# Altium footprint library XH-JST_2.5mm.PcbLib: 27 footprints (part 2 of 2)
Each footprint in its own frame and in the unit in brackets; x right, y up, seen from the top. Pads: shape width x height; smd on the part's side, far side on the other; paste and mask are expansions set on the pad; w line width, h text height; cw(c..) or ccw(c..) is an arc to the next point about the centre after c.
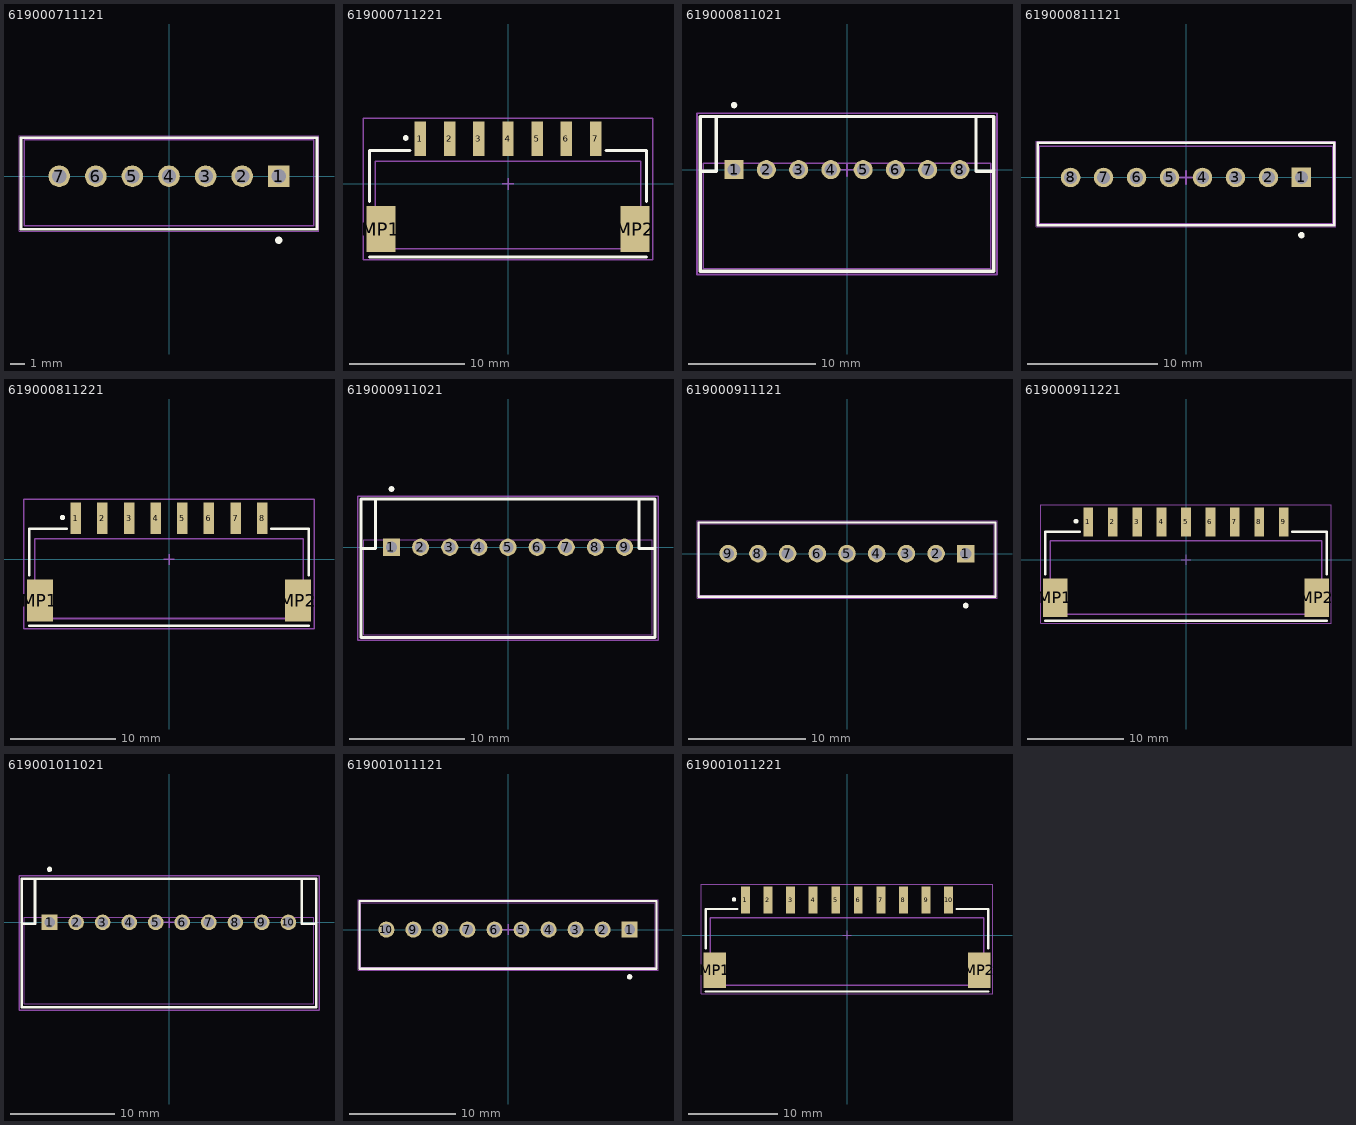
[diagram p1: the footprints below, top view; thin cyan lines are the x and y axes]

## 619000711121 [mm] "2.54mm Male Locking Header, 7p"
height 11.5
pads (7):
  rect 1.5x1.5 hole 1: 1(7.62,0)
  round 1.5 hole 1: 2(5.08,0) 3(2.54,0) 4(0,0) 5(-2.54,0) 6(-5.08,0) 7(-7.62,0)
Top Overlay:
  circle w0.25: c7.62,-4.445 r0.125
  lines w0.2: -10.287,-3.683 10.287,-3.683 10.287,2.667 -10.287,2.667 -10.287,-3.683
Top Courtyard:
  lines w0.127: -0.5,0 0.5,0 ; 0,-0.5 0,0.5
Mechanical 13:
  lines w0.1: -10.033,-3.429 -10.033,2.54 10.033,2.54 10.033,-3.429 -10.033,-3.429
Mechanical 15:
  lines w0.05: -10.414,-3.81 -10.414,2.794 10.414,2.794 10.414,-3.81 -10.414,-3.81
3D body "JST - XH - Thru (V) - 7Pin - 2.54mm.stp": height 7.21, standoff -3, extent -9.957,-3.353 9.957,2.489

## 619000711221 [mm] "2.54mm Male Left Angled Header Bottom Locking, 7p, SMD"
height 5.8
pads (9):
  rect 1x3 smd: 1(-7.62,3.937) 2(-5.08,3.937) 3(-2.54,3.937) 4(0,3.937) 5(2.54,3.937) 6(5.08,3.937) 7(7.62,3.937)
  rect 2.5x4 smd: MP1(-11.049,-3.937) MP2(11.049,-3.937)
Top Overlay:
  circle w0.25: c-8.89,4 r0.125
  lines w0.254: -12.065,-6.35 12.065,-6.35 ; -12.065,-1.524 -12.065,2.921 -8.509,2.921 ; 8.509,2.921 12.065,2.921 12.065,-1.524
Top Courtyard:
  lines w0.127: -0.5,0 0.5,0 ; 0,-0.5 0,0.5
Mechanical 13:
  lines w0.152: -11.557,-5.651 -11.557,1.968 11.557,1.968 11.557,-5.651 -11.557,-5.651
Mechanical 15:
  lines w0.127: -12.573,-6.604 -12.573,5.715 12.573,5.715 12.573,-6.604 -12.573,-6.604
3D body "JST - XH - SMD (R) - 7Pin - 2.54mm.stp": height 5.92, standoff 0, extent -11.417,-5.715 11.417,4.191

## 619000811021 [mm] "2.54mm Male Locking Header, 8p"
height 11.5
pads (8):
  rect 1.5x1.5 hole 1: 1(-8.89,0)
  round 1.5 hole 1: 2(-6.35,0) 3(-3.81,0) 4(-1.27,0) 5(1.27,0) 6(3.81,0) 7(6.35,0) 8(8.89,0)
Top Overlay:
  circle w0.25: c-8.89,5.08 r0.125
  lines w0.254: -11.557,-0.127 -10.287,-0.127 -10.287,4.191 ; 10.16,4.191 10.16,-0.127 11.557,-0.127 ; -11.557,-8.001 11.557,-8.001 11.557,4.191 -11.557,4.191 -11.557,-8.001
Top Courtyard:
  lines w0.127: -0.5,0 0.5,0 ; 0,-0.5 0,0.5
Mechanical 13:
  lines w0.1: -11.303,-7.793 -11.303,0.508 11.303,0.508 11.303,-7.793 -11.303,-7.793
Mechanical 15:
  lines w0.127: -11.811,-8.255 11.811,-8.255 11.811,4.445 -11.811,4.445 -11.811,-8.255
3D body "JST - XH - Thru (R) - 8Pin - 2.54mm.stp": height 5.84, standoff -3.38, extent -11.227,-7.707 11.227,0.33

## 619000811121 [mm] "2.54mm Male Locking Header, 8p"
height 11.5
pads (8):
  rect 1.5x1.5 hole 1: 1(8.89,0)
  round 1.5 hole 1: 2(6.35,0) 3(3.81,0) 4(1.27,0) 5(-1.27,0) 6(-3.81,0) 7(-6.35,0) 8(-8.89,0)
Top Overlay:
  circle w0.25: c8.89,-4.445 r0.125
  lines w0.2: -11.43,-3.683 -11.43,2.667 11.43,2.667 11.43,-3.683 -11.43,-3.683
Top Courtyard:
  lines w0.127: -0.5,0 0.5,0 ; 0,-0.5 0,0.5
Mechanical 13:
  lines w0.1: -11.303,-3.556 -11.303,2.413 11.303,2.413 11.303,-3.556 -11.303,-3.556
Mechanical 15:
  lines w0.05: -11.557,-3.81 11.557,-3.81 11.557,2.794 -11.557,2.794 -11.557,-3.81
3D body "JST - XH - Thru (V) - 8Pin - 2.54mm.stp": height 7.21, standoff -3, extent -11.227,-3.399 11.227,2.443

## 619000811221 [mm] "2.54mm Male Left Angled Header Bottom Locking, 8p, SMD"
height 5.8
pads (10):
  rect 1x3 smd: 1(-8.89,3.937) 2(-6.35,3.937) 3(-3.81,3.937) 4(-1.27,3.937) 5(1.27,3.937) 6(3.81,3.937) 7(6.35,3.937) 8(8.89,3.937)
  rect 2.5x4 smd: MP1(-12.319,-3.937) MP2(12.319,-3.937)
Top Overlay:
  circle w0.25: c-10.16,4 r0.125
  lines w0.254: -13.335,-6.35 13.335,-6.35 ; -13.335,-1.524 -13.335,2.921 -9.779,2.921 ; 9.779,2.921 13.335,2.921 13.335,-1.524
Top Courtyard:
  lines w0.127: -0.5,0 0.5,0 ; 0,-0.5 0,0.5
Mechanical 13:
  lines w0.152: -12.827,-5.651 12.827,-5.651 12.827,1.968 -12.827,1.968 -12.827,-5.651
Mechanical 15:
  lines w0.127: -13.843,-6.604 13.843,-6.604 13.843,5.715 -13.843,5.715 -13.843,-6.604
3D body "JST - XH - SMD (R) - 8Pin - 2.54mm.stp": height 5.92, standoff 0, extent -12.687,-5.715 12.687,4.191

## 619000911021 [mm] "2.54mm Male Locking Header, 7p"
height 11.5
pads (9):
  rect 1.5x1.5 hole 1: 1(-10.16,0)
  round 1.5 hole 1: 2(-7.62,0) 3(-5.08,0) 4(-2.54,0) 5(0,0) 6(2.54,0) 7(5.08,0) 8(7.62,0) 9(10.16,0)
Top Overlay:
  circle w0.25: c-10.16,5.08 r0.125
  lines w0.254: -12.827,-0.127 -11.557,-0.127 -11.557,4.191 ; 11.43,4.191 11.43,-0.127 12.827,-0.127 ; -12.827,-7.874 12.827,-7.874 12.827,4.191 -12.827,4.191 -12.827,-7.874
Top Courtyard:
  lines w0.127: -0.5,0 0.5,0 ; 0,-0.5 0,0.5
Mechanical 13:
  lines w0.1: -12.573,-7.62 -12.573,0.635 12.573,0.635 12.573,-7.62 -12.573,-7.62
Mechanical 15:
  lines w0.127: -13.081,-8.128 13.081,-8.128 13.081,4.445 -13.081,4.445 -13.081,-8.128
3D body "JST - XH - Thru (R) - 9Pin - 2.54mm.stp": height 5.84, standoff -3.38, extent -12.497,-7.534 12.497,0.503

## 619000911121 [mm] "2.54mm Male Locking Header, 7p"
height 11.5
pads (9):
  rect 1.5x1.5 hole 1: 1(10.16,0)
  round 1.5 hole 1: 2(7.62,0) 3(5.08,0) 4(2.54,0) 5(0,0) 6(-2.54,0) 7(-5.08,0) 8(-7.62,0) 9(-10.16,0)
Top Overlay:
  circle w0.25: c10.16,-4.445 r0.125
  lines w0.2: -12.7,-3.683 12.7,-3.683 12.7,2.667 -12.7,2.667 -12.7,-3.683
Top Courtyard:
  lines w0.127: -0.5,0 0.5,0 ; 0,-0.5 0,0.5
Mechanical 13:
  lines w0.1: -12.573,-3.556 12.573,-3.556 12.573,2.54 -12.573,2.54 -12.573,-3.556
Mechanical 15:
  lines w0.05: -12.827,-3.81 -12.827,2.794 12.827,2.794 12.827,-3.81 -12.827,-3.81
3D body "JST - XH - Thru (V) - 9Pin - 2.54mm.stp": height 7.21, standoff -3, extent -12.497,-3.353 12.497,2.489

## 619000911221 [mm] "2.54mm Male Left Angled Header Bottom Locking, 9p, SMD"
height 5.8
pads (11):
  rect 1x3 smd: 1(-10.16,3.937) 2(-7.62,3.937) 3(-5.08,3.937) 4(-2.54,3.937) 5(0,3.937) 6(2.54,3.937) 7(5.08,3.937) 8(7.62,3.937) 9(10.16,3.937)
  rect 2.5x4 smd: MP1(-13.589,-3.937) MP2(13.589,-3.937)
Top Overlay:
  circle w0.25: c-11.43,4 r0.125
  lines w0.254: -14.605,-6.35 14.605,-6.35 ; -14.605,-1.524 -14.605,2.921 -11.049,2.921 ; 11.049,2.921 14.605,2.921 14.605,-1.524
Top Courtyard:
  lines w0.127: -0.5,0 0.5,0 ; 0,-0.5 0,0.5
Mechanical 13:
  lines w0.152: -14.097,-5.651 14.097,-5.651 14.097,1.968 -14.097,1.968 -14.097,-5.651
Mechanical 15:
  lines w0.127: -15.113,-6.604 15.113,-6.604 15.113,5.715 -15.113,5.715 -15.113,-6.604
3D body "JST - XH - SMD (R) - 9Pin - 2.54mm.stp": height 5.92, standoff 0, extent -13.957,-5.588 13.957,4.318

## 619001011021 [mm] "2.54mm Male Locking Header, 10p"
height 11.5
pads (10):
  rect 1.5x1.5 hole 1: 1(-11.43,0)
  round 1.5 hole 1: 2(-8.89,0) 3(-6.35,0) 4(-3.81,0) 5(-1.27,0) 6(1.27,0) 7(3.81,0) 8(6.35,0) 9(8.89,0) 10(11.43,0)
Top Overlay:
  circle w0.25: c-11.43,5.08 r0.125
  lines w0.254: -14.097,-0.127 -12.827,-0.127 -12.827,4.191 ; 12.7,4.191 12.7,-0.127 14.097,-0.127 ; -14.097,-8.128 -14.097,4.191 14.097,4.191 14.097,-8.128 -14.097,-8.128
Top Courtyard:
  lines w0.127: -0.5,0 0.5,0 ; 0,-0.5 0,0.5
Mechanical 13:
  lines w0.1: -13.843,-7.793 -13.843,0.508 13.843,0.508 13.843,-7.793 -13.843,-7.793
Mechanical 15:
  lines w0.127: -14.351,-8.382 -14.351,4.445 14.351,4.445 14.351,-8.382 -14.351,-8.382
3D body "JST - XH - Thru (R) - 10Pin - 2.54mm.stp": height 5.84, standoff -3.38, extent -13.767,-7.707 13.767,0.33

## 619001011121 [mm] "2.54mm Male Locking Header, 10p"
height 11.5
pads (10):
  rect 1.5x1.5 hole 1: 1(11.43,0)
  round 1.5 hole 1: 2(8.89,0) 3(6.35,0) 4(3.81,0) 5(1.27,0) 6(-1.27,0) 7(-3.81,0) 8(-6.35,0) 9(-8.89,0) 10(-11.43,0)
Top Overlay:
  circle w0.25: c11.43,-4.445 r0.125
  lines w0.2: -13.97,-3.683 13.97,-3.683 13.97,2.667 -13.97,2.667 -13.97,-3.683
Top Courtyard:
  lines w0.127: -0.5,0 0.5,0 ; 0,-0.5 0,0.5
Mechanical 13:
  lines w0.1: -13.843,-3.556 13.843,-3.556 13.843,2.54 -13.843,2.54 -13.843,-3.556
Mechanical 15:
  lines w0.05: -14.097,-3.81 -14.097,2.794 14.097,2.794 14.097,-3.81 -14.097,-3.81
3D body "JST - XH - Thru (V) - 10Pin - 2.54mm.stp": height 7.21, standoff -3, extent -13.767,-3.399 13.767,2.443

## 619001011221 [mm] "2.54mm Male Left Angled Header Bottom Locking, 10p, SMD"
height 5.8
pads (12):
  rect 1x3 smd: 1(-11.43,3.937) 2(-8.89,3.937) 3(-6.35,3.937) 4(-3.81,3.937) 5(-1.27,3.937) 6(1.27,3.937) 7(3.81,3.937) 8(6.35,3.937) 9(8.89,3.937) 10(11.43,3.937)
  rect 2.5x4 smd: MP1(-14.859,-3.937) MP2(14.859,-3.937)
Top Overlay:
  circle w0.25: c-12.7,4 r0.125
  lines w0.254: -15.875,-6.35 15.875,-6.35 ; -15.875,-1.524 -15.875,2.921 -12.319,2.921 ; 12.319,2.921 15.875,2.921 15.875,-1.524
Top Courtyard:
  lines w0.127: -0.5,0 0.5,0 ; 0,-0.5 0,0.5
Mechanical 13:
  lines w0.152: -15.367,-5.651 15.367,-5.651 15.367,1.968 -15.367,1.968 -15.367,-5.651
Mechanical 15:
  lines w0.127: -16.383,-6.604 16.383,-6.604 16.383,5.715 -16.383,5.715 -16.383,-6.604
3D body "JST - XH - SMD (R) - 10Pin - 2.54mm.stp": height 5.92, standoff 0, extent -15.227,-5.588 15.227,4.318